# EAGLE library part 804-107/000-012 (library con-wago_804)
Serie 804, Stand: 01.01.2012. Die jeweils aktuellen Daten zu diesem Artikel finden Sie in unserem Produktkatalog, den Sie unter www.wago.com einsehen können. As of: 01/01/2012. Please find the newest data for this article in our product catalogue, which can be viewed under www.wago.com.
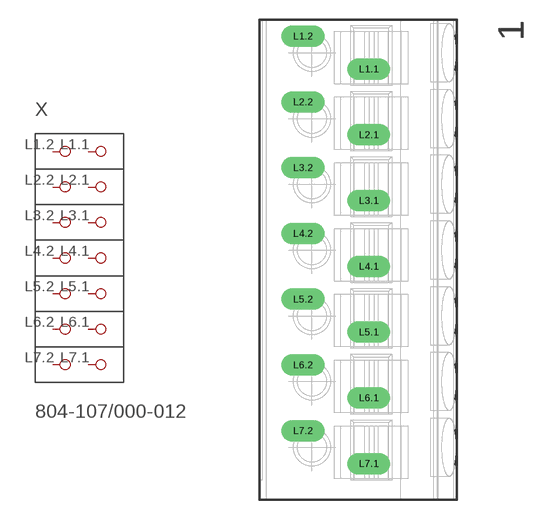
[diagram p76: symbol with the pads of P-804-107; footprint P-804-107]

Designator prefix X

## 804-107/000-012  [P-804-107]
L1.1  P1.1
L1.2  P1.2
L2.1  P2.1
L2.2  P2.2
L3.1  P3.1
L3.2  P3.2
L4.1  P4.1
L4.2  P4.2
L5.1  P5.1
L5.2  P5.2
L6.1  P6.1
L6.2  P6.2
L7.1  P7.1
L7.2  P7.2

## Footprint P-804-107 (pad centres in mm)
drill 1.1 long: L1.1 0.8,14.5; L1.2 -4.2,17; L2.1 0.8,9.5; L2.2 -4.2,12; L3.1 0.8,4.5; L3.2 -4.2,7; L4.1 0.8,-0.5; L4.2 -4.2,2; L5.1 0.8,-5.5; L5.2 -4.2,-3; L6.1 0.8,-10.5; L6.2 -4.2,-8; L7.1 0.8,-15.5; L7.2 -4.2,-13